# EAGLE library part USBMINI4 (library general)
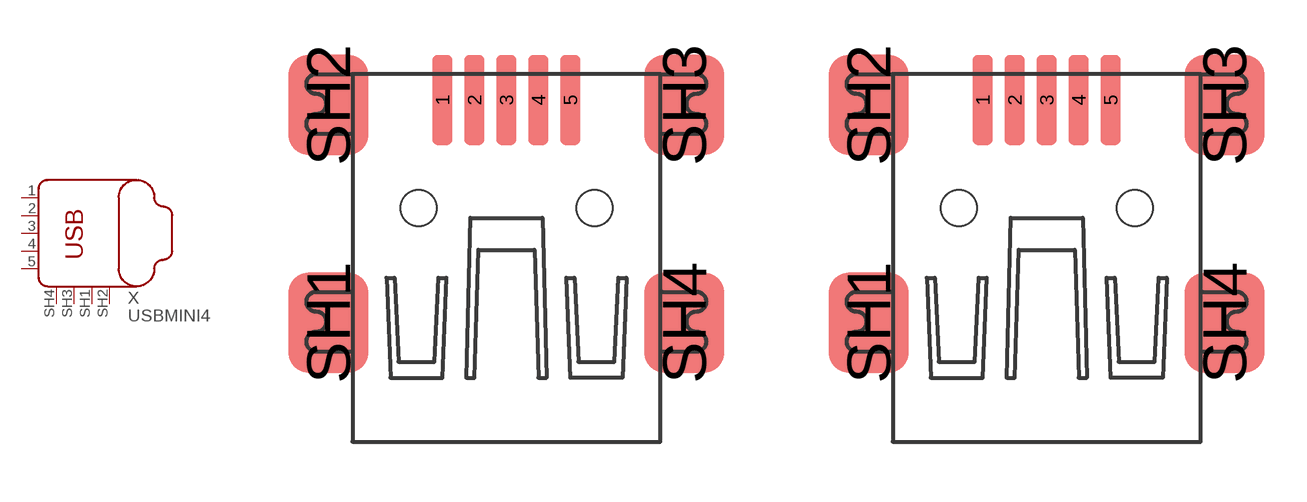
[diagram p5: symbol with the pads of USB-MINI_SMD_10033526; footprints USB-MINI_SMD_10033526, USB-MINI_SMD_10033526_NOCREAM]

Designator prefix X

## USBMINI4_10033526-N3212LF  [USB-MINI_SMD_10033526]
1  VBUS
2  D-
3  D+
4  ID
5  GND
SH1  G1
SH2  G2
SH3  G3
SH4  G4

## USBMINI4_10033526-N3212LF_NOCREAM  [USB-MINI_SMD_10033526_NOCREAM]
Pads as for USB-MINI_SMD_10033526

## Footprint USB-MINI_SMD_10033526 (pad centres in mm)
smd 0.5 x 2.25: 1 -1.6,3.95; 2 -0.8,3.95; 3 0,3.95; 4 0.8,3.95; 5 1.6,3.95
smd 2 x 2.5: SH1 -4.45,-1.625; SH2 -4.45,3.825; SH3 4.45,3.825; SH4 4.45,-1.625
hole 0.9 at 2.2,1.25
hole 0.9 at -2.2,1.25

## Footprint USB-MINI_SMD_10033526_NOCREAM (pad centres in mm)
smd 0.5 x 2.25: 1 -1.6,3.95; 2 -0.8,3.95; 3 0,3.95; 4 0.8,3.95; 5 1.6,3.95
smd 2 x 2.5: SH1 -4.45,-1.625; SH2 -4.45,3.825; SH3 4.45,3.825; SH4 4.45,-1.625
hole 0.9 at 2.2,1.25
hole 0.9 at -2.2,1.25